# Altium schematic symbol library Component_template_GOST.SchLib: 15 symbols
Pins are listed as number, name and electrical type; pins without a type are passive.

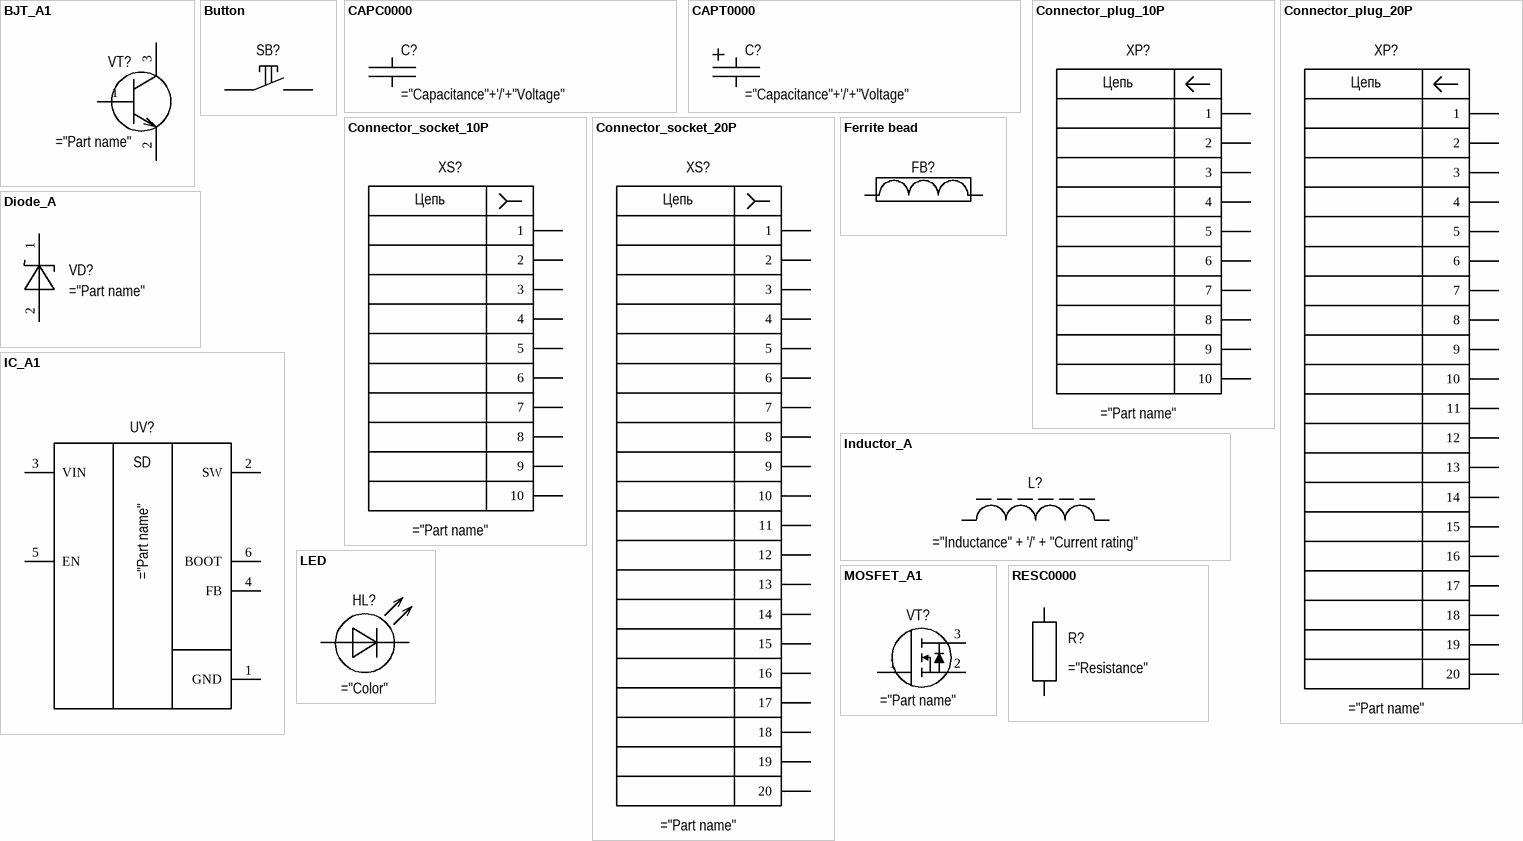
[diagram p0: symbols BJT_A1 to RESC0000]

## BJT_A1
designator VT?
pins: 1 Base, 2 Emitter, 3 Collector

## Button
designator SB?
pins: 1, 2

## CAPC0000
designator C?
pins: 1, 2

## CAPT0000
designator C?
pins: N, P

## Connector_plug_10P
designator XP?
pins: 1, 2, 3, 4, 5, 6, 7, 8, 9, 10
text: Цепь

## Connector_plug_20P
designator XP?
pins: 1, 2, 3, 4, 5, 6, 7, 8, 9, 10, 11, 12, 13, 14, 15, 16, 17, 18, 19, 20
text: Цепь

## Connector_socket_10P
designator XS?
pins: 1, 2, 3, 4, 5, 6, 7, 8, 9, 10
text: Цепь

## Connector_socket_20P
designator XS?
pins: 1, 2, 3, 4, 5, 6, 7, 8, 9, 10, 11, 12, 13, 14, 15, 16, 17, 18, 19, 20
text: Цепь

## Diode_A
designator VD?
pins: 1, 2

## Ferrite bead
designator FB?
pins: 1, 2

## IC_A1
designator UV?
pins: 1 GND, 2 SW, 3 VIN, 4 FB, 5 EN, 6 BOOT
text: SD

## Inductor_A
designator L?
pins: 1, 2

## LED
designator HL?
pins: A Anode, C Cathode

## MOSFET_A1
designator VT?
pins: 1 Gate, 2 Source, 3 Drain

## RESC0000
designator R?
pins: 1, 2